# EAGLE library part ADM3490 (library hurst)
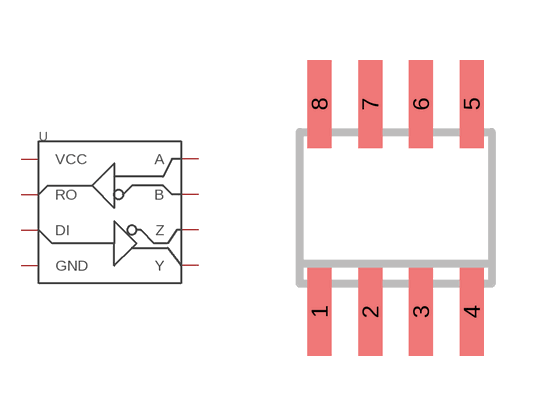
[diagram p6: symbol with the pads of SOIC08; footprint SOIC08]

Designator prefix -

## ADM3490  [SOIC08]
1  VCC
2  RO
3  DI
4  GND
5  Y
6  Z
7  B
8  A

## Footprint SOIC08 (pad centres in mm)
Small Outline Package
smd 0.6 x 2.2: 1 -1.905,-2.6; 2 -0.635,-2.6; 3 0.635,-2.6; 4 1.905,-2.6; 5 1.905,2.6; 6 0.635,2.6; 7 -0.635,2.6; 8 -1.905,2.6